# Altium footprint library camera_modules.PcbLib: 3 footprints
Each footprint in its own frame and in the unit in brackets; x right, y up, seen from the top. Pads: shape width x height; smd on the part's side, far side on the other; paste and mask are expansions set on the pad; w line width, h text height; cw(c..) or ccw(c..) is an arc to the next point about the centre after c.
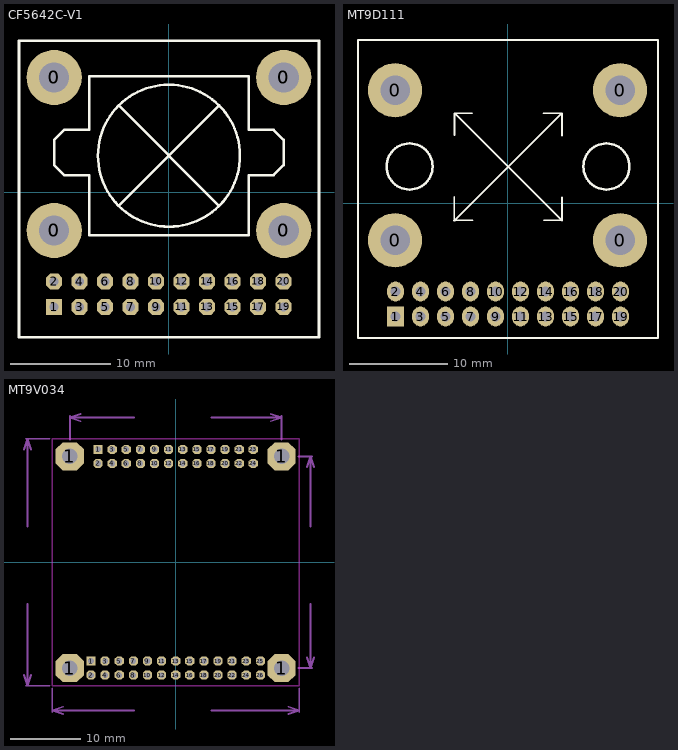
[diagram p0: the footprints below, top view; thin cyan lines are the x and y axes]

## CF5642C-V1 [mm] "500W Pixel Camera Module With JPEG Output"
height 20
pads (28):
  round 5.5 hole 3: 0(-11.43,-3.81) 0(-11.43,-3.81) 0(-11.43,11.43) 0(-11.43,11.43) 0(11.43,-3.81) 0(11.43,-3.81) 0(11.43,11.43) 0(11.43,11.43)
  rect 1.6x1.6 hole 0.9: 1(-11.43,-11.43)
  oct 1.6x1.6 hole 0.9: 2(-11.43,-8.89) 3(-8.89,-11.43) 4(-8.89,-8.89) 5(-6.35,-11.43) 6(-6.35,-8.89) 7(-3.81,-11.43) 8(-3.81,-8.89) 9(-1.27,-11.43) 10(-1.27,-8.89) 11(1.27,-11.43) 12(1.27,-8.89) 13(3.81,-11.43) 14(3.81,-8.89) 15(6.35,-11.43) 16(6.35,-8.89) 17(8.89,-11.43) 18(8.89,-8.89) 19(11.43,-11.43) 20(11.43,-8.89)
Top Overlay:
  circle w0.254: c0,3.64 r7.07
  lines w0.254: -5,-1.36 5,8.64 ; -4.93,8.57 4.958,-1.318 ; -14.93,-14.43 -14.93,15.07 14.945,15.07 14.945,-14.43 -14.93,-14.43 ; -11.43,2.71 -10.43,1.71 -7.93,1.71 -7.93,-4.29 7.93,-4.29 7.93,1.71 10.43,1.71 11.43,2.71 11.43,5.21 10.43,6.21 7.93,6.21 7.93,11.57 -7.93,11.57 -7.93,6.21 -10.43,6.21 -11.43,5.21 -11.43,2.71

## MT9D111 [mm] "2 Mega Pixel Camera Module + HQ lens"
pads (24):
  round 5.5 hole 3: 0(-11.43,-3.75) 0(-11.43,11.49) 0(11.43,-3.75) 0(11.43,11.49)
  rect 1.7x2 hole 1: 1(-11.382,-11.499)
  oval 1.7x2 hole 1: 2(-11.382,-8.959) 3(-8.842,-11.499) 4(-8.842,-8.959) 5(-6.302,-11.499) 6(-6.302,-8.959) 7(-3.762,-11.499) 8(-3.762,-8.959) 9(-1.222,-11.499) 10(-1.222,-8.959) 11(1.318,-11.499) 12(1.318,-8.959) 13(3.858,-11.499) 14(3.858,-8.959) 15(6.398,-11.499) 16(6.398,-8.959) 17(8.938,-11.499) 18(8.938,-8.959) 19(11.478,-11.499) 20(11.478,-8.959)
Top Overlay:
  circle w0.254: c10.048,3.741 r2.344
  circle w0.254: c-9.952,3.741 r2.344
  lines w0.18: -5.416,0.638 -5.416,-1.724 -3.562,-1.724 ; -5.39,6.912 -5.39,9.147 -3.587,9.147 ; 3.652,9.147 5.532,9.147 5.532,6.886 ; 3.677,-1.724 5.532,-1.724 ; 5.532,-1.699 5.532,0.587
  lines w0.2: -5.416,-1.724 -5.34,-1.724 5.532,9.147 ; -5.39,9.147 -5.34,9.147 5.532,-1.724
  lines w0.203: -15.192,-13.683 -15.192,16.593 15.288,16.593 15.288,-13.683 -15.192,-13.683
Bottom Overlay:
  lines w0.2: -12.652,-12.769 -12.652,-7.689 -10.747,-7.689 12.748,-7.689 12.748,-12.769 -10.747,-12.769 -12.652,-12.769

## MT9V034 [mm]
pads (54):
  oct 4x4 hole 2.2: 1(-15,-15) 1(-15,15) 1(15,-15) 1(15,15)
  rect 1.3x1.3 hole 0.8: 1(-12,-14) 1(-11,16)
  oct 1.3x1.3 hole 0.8: 2(-12,-16) 2(-11,14) 3(-10,-14) 3(-9,16) 4(-10,-16) 4(-9,14) 5(-8,-14) 5(-7,16) 6(-8,-16) 6(-7,14) 7(-6,-14) 7(-5,16) 8(-6,-16) 8(-5,14) 9(-4,-14) 9(-3,16) 10(-4,-16) 10(-3,14) 11(-2,-14) 11(-1,16) 12(-2,-16) 12(-1,14) 13(0,-14) 13(1,16) 14(0,-16) 14(1,14) 15(2,-14) 15(3,16) 16(2,-16) 16(3,14) 17(4,-14) 17(5,16) 18(4,-16) 18(5,14) 19(6,-14) 19(7,16) 20(6,-16) 20(7,14) 21(8,-14) 21(9,16) 22(8,-16) 22(9,14) 23(10,-14) 23(11,16) 24(10,-16) 24(11,14) 25(12,-14) 26(12,-16)
Top Layer:
  lines w0.256: -1,14 -1,14
Bottom Layer:
  lines w0.254: 4,-14 4,-13.7
  lines w0.4: -15,-15 -14,-16
Bottom Overlay:
  lines w0.254: -13,-16.999 13,-16.999 13,-13 -13,-13 -13,-16.999 ; -12,13.001 -12,17 12,17 12,13.001 -12,13.001
Keep-Out Layer:
  lines w0.2: -17.5,-17.5 17.5,-17.5 17.5,17.5 -17.5,17.5 -17.5,-17.5
Mechanical 15:
  lines w0.254: -21.508,-15.976 -21,-17.5 ; -21.508,15.976 -21,17.5 ; -21.254,-17.5 -17.854,-17.5 ; -21.254,17.5 -17.854,17.5 ; -21,-5.891 -21,-17.5 ; -21,5.078 -21,17.5 ; -20.492,-15.976 -21,-17.5 ; -20.492,15.976 -21,17.5 ; -17.5,-21.254 -17.5,-17.854 ; -15.976,-21.508 -17.5,-21 ; -15.976,-20.492 -17.5,-21 ; -15,17.356 -15,20.754 ; -13.476,19.992 -15,20.5 ; -13.476,21.008 -15,20.5 ; -5.891,-21 -17.5,-21 ; -5.891,20.5 -15,20.5 ; 5.078,-21 17.5,-21 ; 5.078,20.5 15,20.5 ; 13.476,19.992 15,20.5 ; 13.476,21.008 15,20.5 ; 15,17.356 15,20.754 ; 15.976,-21.508 17.5,-21 ; 15.976,-20.492 17.5,-21 ; 17.356,-15 19.354,-15 ; 17.356,15 19.354,15 ; 17.5,-21.254 17.5,-17.854 ; 18.592,-13.476 19.1,-15 ; 18.592,13.476 19.1,15 ; 19.1,-5.891 19.1,-15 ; 19.1,5.078 19.1,15 ; 19.608,-13.476 19.1,-15 ; 19.608,13.476 19.1,15
  text "30,00mm" at 20.268,-5.485 h1.52
  text "30,00mm" at -5.485,19.332 h1.52
  text "35,00mm" at -19.832,-5.485 h1.52
  text "35,00mm" at -5.485,-22.168 h1.52
3D body: height 2.42, standoff -4.94, extent -13.125,-16.999 13.108,-13.001
3D body: height 2.42, standoff -4.94, extent -12.125,13.001 12.109,16.999
3D body: height 3, standoff -14.61, extent -17.5,-17.5 17.5,17.5